# Altium footprint library TUW5JR10E.PcbLib: 1 footprints
Each footprint in its own frame and in the unit in brackets; x right, y up, seen from the top. Pads: shape width x height; smd on the part's side, far side on the other; paste and mask are expansions set on the pad; w line width, h text height; cw(c..) or ccw(c..) is an arc to the next point about the centre after c.
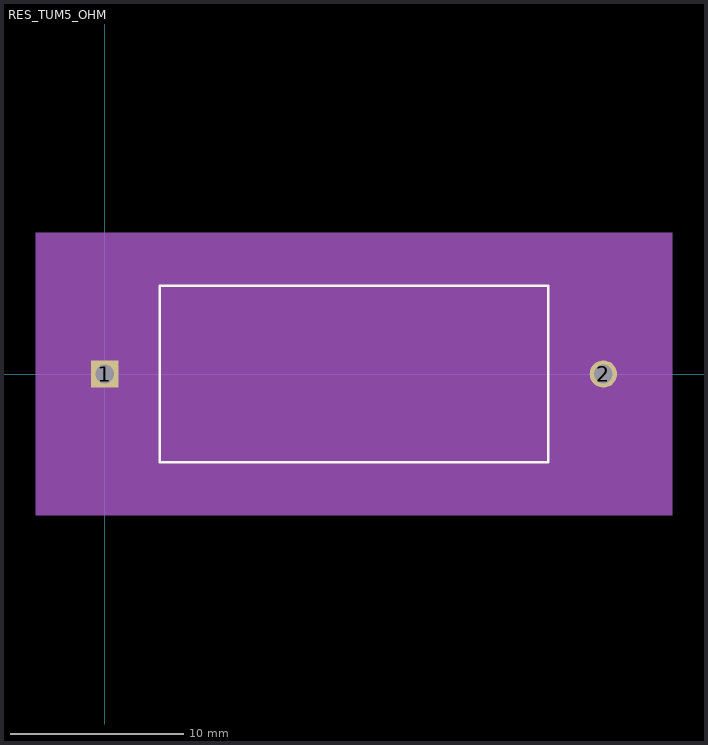
[diagram p0: the footprint, top view; thin cyan lines are the x and y axes]

## RES_TUM5_OHM [mil]
pads (2):
  rect 62x62 hole 42 mask+0: 1(0,0)
  round 62 hole 42 mask+0: 2(1130,0)
Top Overlay:
  lines w6: 125,-200 1005,-200 1005,200 125,200 125,-200
Mechanical 5:
  region: 1286,-320 -156,-320 -156,320 1286,320
Mechanical 13:
  lines w1: 0,0 130,0 ; 1000,0 1130,0 ; 130,-195 1000,-195 1000,195 130,195 130,-195
Mechanical 15:
  region: 120,-41 -41,-41 -41,41 120,41 120,205 1010,205 1010,41 1171,41 1171,-41 1010,-41 1010,-205 120,-205
  lines w6: -41,-41 -41,41 120,41 120,205 1010,205 1010,41 1171,41 1171,-41 1010,-41 1010,-205 120,-205 120,-41 -41,-41
3D body "RES_TUM5_OHM.step": height 390, standoff -110, extent -15.98,-195 1145.98,195